# Altium footprint library JTAG_20PIN.PcbLib: 1 footprints
Each footprint in its own frame and in the unit in brackets; x right, y up, seen from the top. Pads: shape width x height; smd on the part's side, far side on the other; paste and mask are expansions set on the pad; w line width, h text height; cw(c..) or ccw(c..) is an arc to the next point about the centre after c.
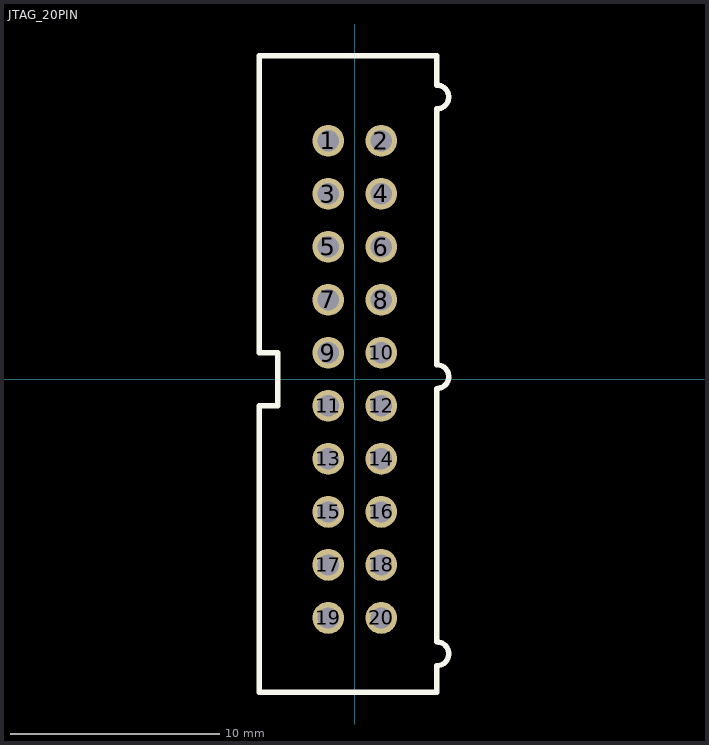
[diagram p0: the footprint, top view; thin cyan lines are the x and y axes]

## JTAG_20PIN [mil] "JTAG连接器座"
pads (20):
  round 60 hole 40: 1(-50,450) 2(50,450) 3(-50,350) 4(50,350) 5(-50,250) 6(50,250) 7(-50,150) 8(50,150) 9(-50,50) 10(50,50) 11(-50,-50) 12(50,-50) 13(-50,-150) 14(50,-150) 15(-50,-250) 16(50,-250) 17(-50,-350) 18(50,-350) 19(-50,-450) 20(50,-450)
Top Overlay:
  lines w10: -180,-590 155,-590 155,-540 ccw(c155,-517.64) 155,-495.28 155,-17.36 ccw(c155,5) 155,27.36 155,510 ccw(c155,532.36) 155,554.72 155,610 -180,610 -180,50 -145,50 -145,-50 -180,-50 -180,-590